# Altium footprint library LC-SOD-323F.PcbLib: 1 footprints
Each footprint in its own frame and in the unit in brackets; x right, y up, seen from the top. Pads: shape width x height; smd on the part's side, far side on the other; paste and mask are expansions set on the pad; w line width, h text height; cw(c..) or ccw(c..) is an arc to the next point about the centre after c.
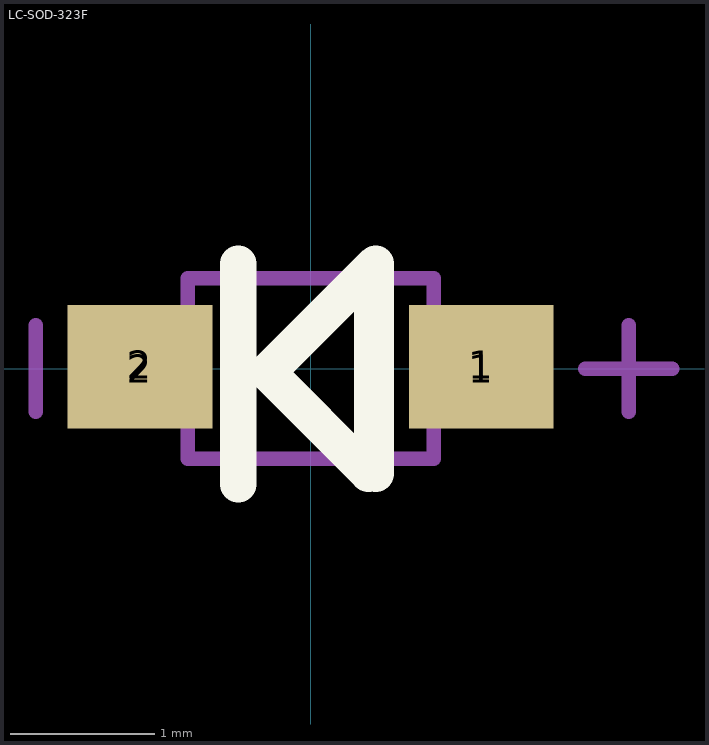
[diagram p0: the footprint, top view; thin cyan lines are the x and y axes]

## LC-SOD-323F [mm]
pads (4):
  rect 1x0.83 smd: 1(1.18,0.025) 1(1.18,0) 2(-1.18,0.025) 2(-1.18,0)
Top Overlay:
  lines w0.2: 0.4,-0.6 0.4,0.6
  lines w0.254: -0.5,-0.8 -0.5,0.725 ; 0.4,-0.725 -0.3,-0.025 0.45,0.725 0.45,-0.725
Mechanical 13:
  lines w0.1: -0.85,-0.625 -0.85,0.625 0.85,0.625 0.85,-0.625 -0.85,-0.625
Mechanical 15:
  lines w0.1: -1.9,-0.3 -1.9,0.3 ; 1.9,0 2.5,0 ; 2.2,-0.3 2.2,0.3
3D body: height 0.75, standoff -0.01, extent -1.4,-0.675 1.4,0.675